# Altium footprint library Power Supplies.PcbLib: 1 footprints
Each footprint in its own frame and in the unit in brackets; x right, y up, seen from the top. Pads: shape width x height; smd on the part's side, far side on the other; paste and mask are expansions set on the pad; w line width, h text height; cw(c..) or ccw(c..) is an arc to the next point about the centre after c.
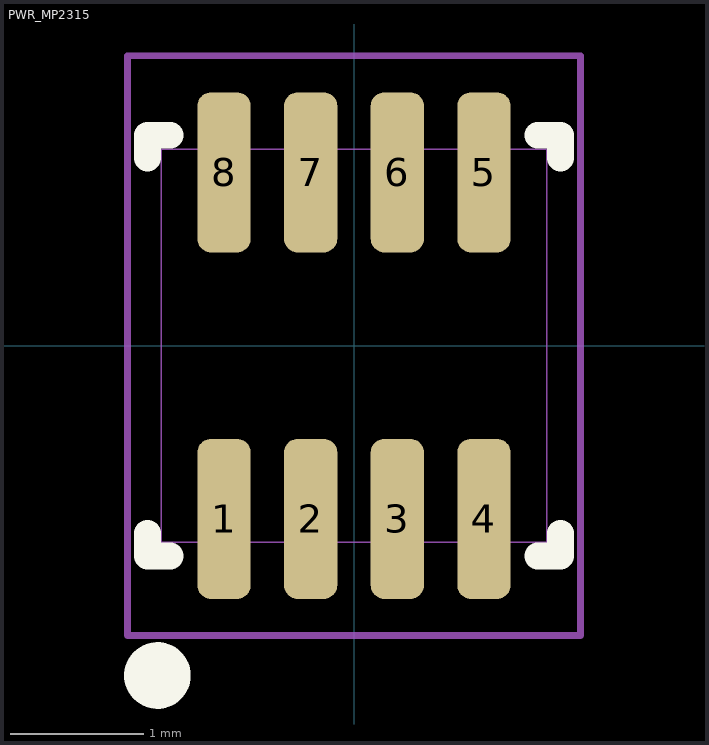
[diagram p0: the footprint, top view; thin cyan lines are the x and y axes]

## PWR_MP2315 [mm]
pads (8):
  rrect50% 0.4x1.2 smd: 1(-0.975,-1.3) 2(-0.325,-1.3) 3(0.325,-1.3) 4(0.975,-1.3) 5(0.975,1.3) 6(0.325,1.3) 7(-0.325,1.3) 8(-0.975,1.3)
Top Overlay:
  circle w0.25: c-1.475,-2.475 r0.125
  lines w0.2: -1.55,-1.408 -1.55,-1.578 -1.38,-1.578 ; -1.55,1.408 -1.55,1.578 -1.38,1.578 ; 1.38,-1.578 1.55,-1.578 1.55,-1.408 ; 1.38,1.578 1.55,1.578 1.55,1.408
Top Assembly:
  lines w0.01: -1.445,-1.475 1.445,-1.475 1.445,1.473 -1.445,1.473 -1.445,-1.475
Top Courtyard:
  lines w0.05: -1.7,-2.175 -1.7,2.175 1.7,2.175 1.7,-2.175 -1.7,-2.175
3D body "User Library-SOT-23-8 Thin.step": height 1.1, standoff 0, extent -1.45,-1.48 1.45,1.478